# Altium integrated library WD Logic EDAC.IntLib: 11 symbols
Pins are listed as number, name and electrical type; pins without a type are passive.

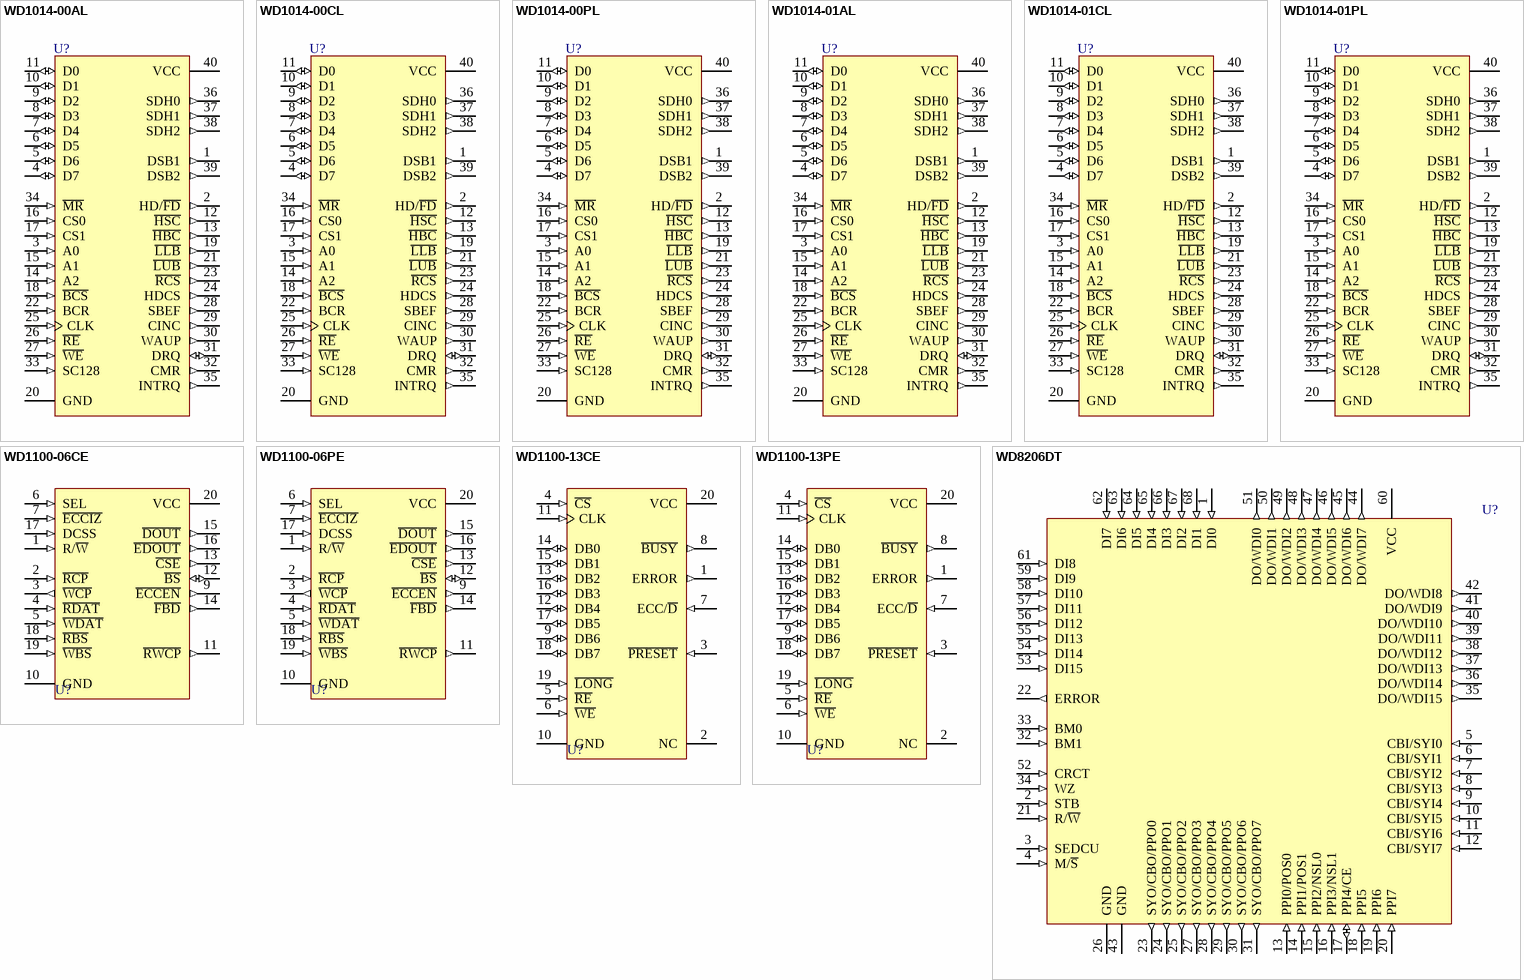
[diagram p0: symbols WD1014-00AL to WD8206DT]

## WD1014-00AL
designator U?
Error Detection/Support Logic Device; PackageDocument: 1984; Published: 8-Jun-2000; LatestRevisionDate: 4-Mar-2005; LatestRevisionNote: Stylized 3D Model Added.; DatasheetDocument: 1984; PackageReference: AL40; Publisher: Altium Limited; ComponentLink1Description: Manufacturer Link; ComponentLink1URL: http://www.wdc.com/
footprint AL40 (DIP; 40 Leads; Row Spacing 15.24 mm; Pitch 2.54 mm)
3D model AL40 (DIP; 40 Leads; Row Spacing 15.24 mm; Pitch 2.54 mm)
pins: 1 DSB1 (out), 2 HD/~{FD} (out), 3 A0 (in), 4 D7 (io), 5 D6 (io), 6 D5 (io), 7 D4 (io), 8 D3 (io), 9 D2 (io), 10 D1 (io), 11 D0 (io), 12 ~{HSC} (out), 13 ~{HBC} (out), 14 A2 (in), 15 A1 (in), 16 CS0 (in), 17 CS1 (in), 18 ~{BCS} (in), 19 ~{LLB} (out), 20 GND (power), 21 ~{LUB} (out), 22 BCR (in), 23 ~{RCS} (out), 24 HDCS (out), 25 CLK (in), 26 ~{RE} (in), 27 ~{WE} (in), 28 SBEF (out), 29 CINC (out), 30 WAUP (out), 31 DRQ (io), 32 CMR (out), 33 SC128 (in), 34 ~{MR} (in), 35 INTRQ (out), 36 SDH0 (out), 37 SDH1 (out), 38 SDH2 (out), 39 DSB2 (out), 40 VCC (power)

## WD1014-00CL
designator U?
Error Detection/Support Logic Device; PackageDocument: 1984; Published: 8-Jun-2000; LatestRevisionDate: 4-Mar-2005; LatestRevisionNote: Stylized 3D Model Added.; DatasheetDocument: 1984; PackageReference: CL40; Publisher: Altium Limited; ComponentLink1Description: Manufacturer Link; ComponentLink1URL: http://www.wdc.com/
footprint CL40 (DIP; 40 Leads; Row Spacing 15.24 mm; Pitch 2.54 mm)
3D model PL40 (DIP; 40 Leads; Row Spacing 15.24 mm; Pitch 2.54 mm)
pins: 1 DSB1 (out), 2 HD/~{FD} (out), 3 A0 (in), 4 D7 (io), 5 D6 (io), 6 D5 (io), 7 D4 (io), 8 D3 (io), 9 D2 (io), 10 D1 (io), 11 D0 (io), 12 ~{HSC} (out), 13 ~{HBC} (out), 14 A2 (in), 15 A1 (in), 16 CS0 (in), 17 CS1 (in), 18 ~{BCS} (in), 19 ~{LLB} (out), 20 GND (power), 21 ~{LUB} (out), 22 BCR (in), 23 ~{RCS} (out), 24 HDCS (out), 25 CLK (in), 26 ~{RE} (in), 27 ~{WE} (in), 28 SBEF (out), 29 CINC (out), 30 WAUP (out), 31 DRQ (io), 32 CMR (out), 33 SC128 (in), 34 ~{MR} (in), 35 INTRQ (out), 36 SDH0 (out), 37 SDH1 (out), 38 SDH2 (out), 39 DSB2 (out), 40 VCC (power)

## WD1014-00PL
designator U?
Error Detection/Support Logic Device; PackageDocument: 1984; Published: 8-Jun-2000; LatestRevisionDate: 4-Mar-2005; LatestRevisionNote: Stylized 3D Model Added.; DatasheetDocument: 1984; PackageReference: PL40; Publisher: Altium Limited; ComponentLink1Description: Manufacturer Link; ComponentLink1URL: http://www.wdc.com/
footprint PL40 (DIP; 40 Leads; Row Spacing 15.24 mm; Pitch 2.54 mm)
3D model PL40 (DIP; 40 Leads; Row Spacing 15.24 mm; Pitch 2.54 mm)
pins: 1 DSB1 (out), 2 HD/~{FD} (out), 3 A0 (in), 4 D7 (io), 5 D6 (io), 6 D5 (io), 7 D4 (io), 8 D3 (io), 9 D2 (io), 10 D1 (io), 11 D0 (io), 12 ~{HSC} (out), 13 ~{HBC} (out), 14 A2 (in), 15 A1 (in), 16 CS0 (in), 17 CS1 (in), 18 ~{BCS} (in), 19 ~{LLB} (out), 20 GND (power), 21 ~{LUB} (out), 22 BCR (in), 23 ~{RCS} (out), 24 HDCS (out), 25 CLK (in), 26 ~{RE} (in), 27 ~{WE} (in), 28 SBEF (out), 29 CINC (out), 30 WAUP (out), 31 DRQ (io), 32 CMR (out), 33 SC128 (in), 34 ~{MR} (in), 35 INTRQ (out), 36 SDH0 (out), 37 SDH1 (out), 38 SDH2 (out), 39 DSB2 (out), 40 VCC (power)

## WD1014-01AL
designator U?
Error Detection/Support Logic Device; PackageDocument: 1984; Published: 8-Jun-2000; LatestRevisionDate: 4-Mar-2005; LatestRevisionNote: Stylized 3D Model Added.; DatasheetDocument: 1984; PackageReference: AL40; Publisher: Altium Limited; ComponentLink1Description: Manufacturer Link; ComponentLink1URL: http://www.wdc.com/
footprint AL40 (DIP; 40 Leads; Row Spacing 15.24 mm; Pitch 2.54 mm)
3D model AL40 (DIP; 40 Leads; Row Spacing 15.24 mm; Pitch 2.54 mm)
pins: 1 DSB1 (out), 2 HD/~{FD} (out), 3 A0 (in), 4 D7 (io), 5 D6 (io), 6 D5 (io), 7 D4 (io), 8 D3 (io), 9 D2 (io), 10 D1 (io), 11 D0 (io), 12 ~{HSC} (out), 13 ~{HBC} (out), 14 A2 (in), 15 A1 (in), 16 CS0 (in), 17 CS1 (in), 18 ~{BCS} (in), 19 ~{LLB} (out), 20 GND (power), 21 ~{LUB} (out), 22 BCR (in), 23 ~{RCS} (out), 24 HDCS (out), 25 CLK (in), 26 ~{RE} (in), 27 ~{WE} (in), 28 SBEF (out), 29 CINC (out), 30 WAUP (out), 31 DRQ (io), 32 CMR (out), 33 SC128 (in), 34 ~{MR} (in), 35 INTRQ (out), 36 SDH0 (out), 37 SDH1 (out), 38 SDH2 (out), 39 DSB2 (out), 40 VCC (power)

## WD1014-01CL
designator U?
Error Detection/Support Logic Device; PackageDocument: 1984; Published: 8-Jun-2000; LatestRevisionDate: 4-Mar-2005; LatestRevisionNote: Stylized 3D Model Added.; DatasheetDocument: 1984; PackageReference: CL40; Publisher: Altium Limited; ComponentLink1Description: Manufacturer Link; ComponentLink1URL: http://www.wdc.com/
footprint CL40 (DIP; 40 Leads; Row Spacing 15.24 mm; Pitch 2.54 mm)
3D model PL40 (DIP; 40 Leads; Row Spacing 15.24 mm; Pitch 2.54 mm)
pins: 1 DSB1 (out), 2 HD/~{FD} (out), 3 A0 (in), 4 D7 (io), 5 D6 (io), 6 D5 (io), 7 D4 (io), 8 D3 (io), 9 D2 (io), 10 D1 (io), 11 D0 (io), 12 ~{HSC} (out), 13 ~{HBC} (out), 14 A2 (in), 15 A1 (in), 16 CS0 (in), 17 CS1 (in), 18 ~{BCS} (in), 19 ~{LLB} (out), 20 GND (power), 21 ~{LUB} (out), 22 BCR (in), 23 ~{RCS} (out), 24 HDCS (out), 25 CLK (in), 26 ~{RE} (in), 27 ~{WE} (in), 28 SBEF (out), 29 CINC (out), 30 WAUP (out), 31 DRQ (io), 32 CMR (out), 33 SC128 (in), 34 ~{MR} (in), 35 INTRQ (out), 36 SDH0 (out), 37 SDH1 (out), 38 SDH2 (out), 39 DSB2 (out), 40 VCC (power)

## WD1014-01PL
designator U?
Error Detection/Support Logic Device; PackageDocument: 1984; Published: 8-Jun-2000; LatestRevisionDate: 4-Mar-2005; LatestRevisionNote: Stylized 3D Model Added.; DatasheetDocument: 1984; PackageReference: PL40; Publisher: Altium Limited; ComponentLink1Description: Manufacturer Link; ComponentLink1URL: http://www.wdc.com/
footprint PL40 (DIP; 40 Leads; Row Spacing 15.24 mm; Pitch 2.54 mm)
3D model PL40 (DIP; 40 Leads; Row Spacing 15.24 mm; Pitch 2.54 mm)
pins: 1 DSB1 (out), 2 HD/~{FD} (out), 3 A0 (in), 4 D7 (io), 5 D6 (io), 6 D5 (io), 7 D4 (io), 8 D3 (io), 9 D2 (io), 10 D1 (io), 11 D0 (io), 12 ~{HSC} (out), 13 ~{HBC} (out), 14 A2 (in), 15 A1 (in), 16 CS0 (in), 17 CS1 (in), 18 ~{BCS} (in), 19 ~{LLB} (out), 20 GND (power), 21 ~{LUB} (out), 22 BCR (in), 23 ~{RCS} (out), 24 HDCS (out), 25 CLK (in), 26 ~{RE} (in), 27 ~{WE} (in), 28 SBEF (out), 29 CINC (out), 30 WAUP (out), 31 DRQ (io), 32 CMR (out), 33 SC128 (in), 34 ~{MR} (in), 35 INTRQ (out), 36 SDH0 (out), 37 SDH1 (out), 38 SDH2 (out), 39 DSB2 (out), 40 VCC (power)

## WD1100-06CE
designator U?
ECC/CRC Logic; PackageDocument: 1984; Published: 8-Jun-2000; LatestRevisionDate: 4-Mar-2005; LatestRevisionNote: Stylized 3D Model Added.; DatasheetDocument: 1984; PackageReference: CE20; Publisher: Altium Limited; ComponentLink1Description: Manufacturer Link; ComponentLink1URL: http://www.wdc.com/
footprint CE20 (DIP; 20 Leads; Row Spacing 7.62 mm; Pitch 2.54 mm)
3D model CE20 (DIP; 20 Leads; Row Spacing 7.62 mm; Pitch 2.54 mm)
pins: 1 R/~{W} (in), 2 ~{RCP} (in), 3 ~{WCP} (out), 4 ~{RDAT} (in), 5 ~{WDAT} (in), 6 SEL (in), 7 ~{ECCIZ} (in), 9 ~{ECCEN} (out), 10 GND (power), 11 ~{RWCP} (out), 12 ~{BS} (io), 13 ~{CSE} (out), 14 ~{FBD} (out), 15 ~{DOUT} (out), 16 ~{EDOUT} (out), 17 DCSS (in), 18 ~{RBS} (in), 19 ~{WBS} (in), 20 VCC (power)

## WD1100-06PE
designator U?
ECC/CRC Logic; PackageDocument: 1984; Published: 8-Jun-2000; LatestRevisionDate: 4-Mar-2005; LatestRevisionNote: Stylized 3D Model Added.; DatasheetDocument: 1984; PackageReference: PE20; Publisher: Altium Limited; ComponentLink1Description: Manufacturer Link; ComponentLink1URL: http://www.wdc.com/; Code_JEDEC: MS-001-AD
footprint PE20 (DIP; 20 Leads; Row Spacing 7.62 mm; Pitch 2.54 mm)
3D model PE20 (DIP; 20 Leads; Row Spacing 7.62 mm; Pitch 2.54 mm)
pins: 1 R/~{W} (in), 2 ~{RCP} (in), 3 ~{WCP} (out), 4 ~{RDAT} (in), 5 ~{WDAT} (in), 6 SEL (in), 7 ~{ECCIZ} (in), 9 ~{ECCEN} (out), 10 GND (power), 11 ~{RWCP} (out), 12 ~{BS} (io), 13 ~{CSE} (out), 14 ~{FBD} (out), 15 ~{DOUT} (out), 16 ~{EDOUT} (out), 17 DCSS (in), 18 ~{RBS} (in), 19 ~{WBS} (in), 20 VCC (power)

## WD1100-13CE
designator U?
ECC Logic Device; PackageDocument: 1984; Published: 8-Jun-2000; LatestRevisionDate: 4-Mar-2005; LatestRevisionNote: Stylized 3D Model Added.; DatasheetDocument: 1984; PackageReference: CE20; Publisher: Altium Limited; ComponentLink1Description: Manufacturer Link; ComponentLink1URL: http://www.wdc.com/
footprint CE20 (DIP; 20 Leads; Row Spacing 7.62 mm; Pitch 2.54 mm)
3D model CE20 (DIP; 20 Leads; Row Spacing 7.62 mm; Pitch 2.54 mm)
pins: 1 ERROR (out), 2 NC, 3 ~{PRESET} (in), 4 ~{CS} (in), 5 ~{RE} (in), 6 ~{WE} (in), 7 ECC/~{D} (in), 8 ~{BUSY} (out), 9 DB6 (io), 10 GND (power), 11 CLK (in), 12 DB4 (io), 13 DB2 (io), 14 DB0 (io), 15 DB1 (io), 16 DB3 (io), 17 DB5 (io), 18 DB7 (io), 19 ~{LONG} (in), 20 VCC (power)

## WD1100-13PE
designator U?
ECC Logic Device; PackageDocument: 1984; Published: 8-Jun-2000; LatestRevisionDate: 4-Mar-2005; LatestRevisionNote: Stylized 3D Model Added.; DatasheetDocument: 1984; PackageReference: PE20; Publisher: Altium Limited; ComponentLink1Description: Manufacturer Link; ComponentLink1URL: http://www.wdc.com/; Code_JEDEC: MS-001-AD
footprint PE20 (DIP; 20 Leads; Row Spacing 7.62 mm; Pitch 2.54 mm)
3D model PE20 (DIP; 20 Leads; Row Spacing 7.62 mm; Pitch 2.54 mm)
pins: 1 ERROR (out), 2 NC, 3 ~{PRESET} (in), 4 ~{CS} (in), 5 ~{RE} (in), 6 ~{WE} (in), 7 ECC/~{D} (in), 8 ~{BUSY} (out), 9 DB6 (io), 10 GND (power), 11 CLK (in), 12 DB4 (io), 13 DB2 (io), 14 DB0 (io), 15 DB1 (io), 16 DB3 (io), 17 DB5 (io), 18 DB7 (io), 19 ~{LONG} (in), 20 VCC (power)

## WD8206DT
designator U?
Error Detection and Correction Unit; PackageDocument: 1986; Published: 8-Jun-2000; LatestRevisionDate: 17-Jul-2002; LatestRevisionNote: Re-released for DXP Platform.; DatasheetDocument: 1984; PackageReference: DT68; Publisher: Altium Limited; ComponentLink1Description: Manufacturer Link; ComponentLink1URL: http://www.wdc.com/
footprint DT68 (Leadless Chip Carrier; 68 Terminals; Body 24.1 x 24.1 mm)
pins: 1 DI0 (in), 2 STB (in), 3 SEDCU (in), 4 M/~{S} (in), 5 CBI/SYI0 (in), 6 CBI/SYI1 (in), 7 CBI/SYI2 (in), 8 CBI/SYI3 (in), 9 CBI/SYI4 (in), 10 CBI/SYI5 (in), 11 CBI/SYI6 (in), 12 CBI/SYI7 (in), 13 PPI0/POS0 (in), 14 PPI1/POS1 (in), 15 PPI2/NSL0 (in), 16 PPI3/NSL1 (in), 17 PPI4/CE (io), 18 PPI5 (in), 19 PPI6 (in), 20 PPI7 (in), 21 R/~{W} (in), 22 ERROR (out), 23 SYO/CBO/PPO0 (out), 24 SYO/CBO/PPO1 (out), 25 SYO/CBO/PPO2 (out), 26 GND (power), 27 SYO/CBO/PPO3 (out), 28 SYO/CBO/PPO4 (out), 29 SYO/CBO/PPO5 (out), 30 SYO/CBO/PPO6 (out), 31 SYO/CBO/PPO7 (out), 32 BM1 (in), 33 BM0 (in), 34 WZ (in), 35 DO/WDI15 (out), 36 DO/WDI14 (out), 37 DO/WDI13 (out), 38 DO/WDI12 (out), 39 DO/WDI11 (out), 40 DO/WDI10 (out), 41 DO/WDI9 (out), 42 DO/WDI8 (out), 43 GND (power), 44 DO/WDI7 (out), 45 DO/WDI6 (out), 46 DO/WDI5 (out), 47 DO/WDI4 (out), 48 DO/WDI3 (out), 49 DO/WDI2 (out), 50 DO/WDI1 (out), 51 DO/WDI0 (out), 52 CRCT (in), 53 DI15 (in), 54 DI14 (in), 55 DI13 (in), 56 DI12 (in), 57 DI11 (in), 58 DI10 (in), 59 DI9 (in), 60 VCC (power), 61 DI8 (in), 62 DI7 (in), 63 DI6 (in), 64 DI5 (in), 65 DI4 (in), 66 DI3 (in), 67 DI2 (in), 68 DI1 (in)